# EAGLE library part STM32F411E-DISCO (library mbLib)
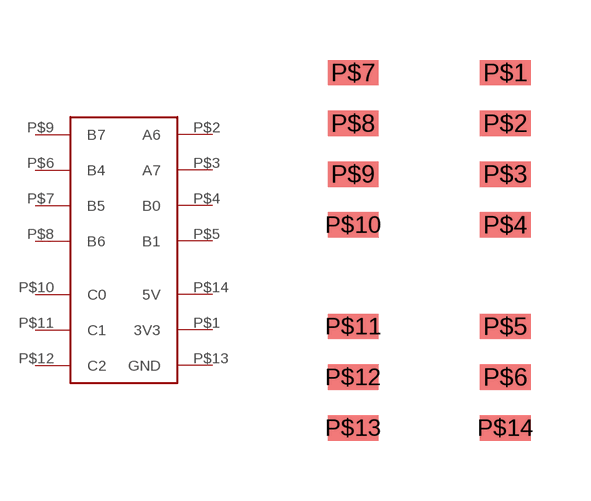
[diagram p0: symbol with the pads of STM32F411E-DISCO; footprint STM32F411E-DISCO]

Designator prefix -

## STM32F411E-DISCO  [STM32F411E-DISCO]
P$1  3V3
P$2  A6
P$3  A7
P$4  B0
P$5  B1
P$6  B4
P$7  B5
P$8  B6
P$9  B7
P$10  C0
P$11  C1
P$12  C2
P$13  GND
P$14  5V

## Footprint STM32F411E-DISCO (pad centres in mm)
smd 1.27 x 0.635: P$1 2.54,6.35; P$2 2.54,5.08; P$3 2.54,3.81; P$4 2.54,2.54; P$5 2.54,0; P$6 2.54,-1.27; P$7 -1.27,6.35; P$8 -1.27,5.08; P$9 -1.27,3.81; P$10 -1.27,2.54; P$11 -1.27,0; P$12 -1.27,-1.27; P$13 -1.27,-2.54; P$14 2.54,-2.54